# Altium footprint library Optocoupler.PcbLib: 1 footprints
Each footprint in its own frame and in the unit in brackets; x right, y up, seen from the top. Pads: shape width x height; smd on the part's side, far side on the other; paste and mask are expansions set on the pad; w line width, h text height; cw(c..) or ccw(c..) is an arc to the next point about the centre after c.
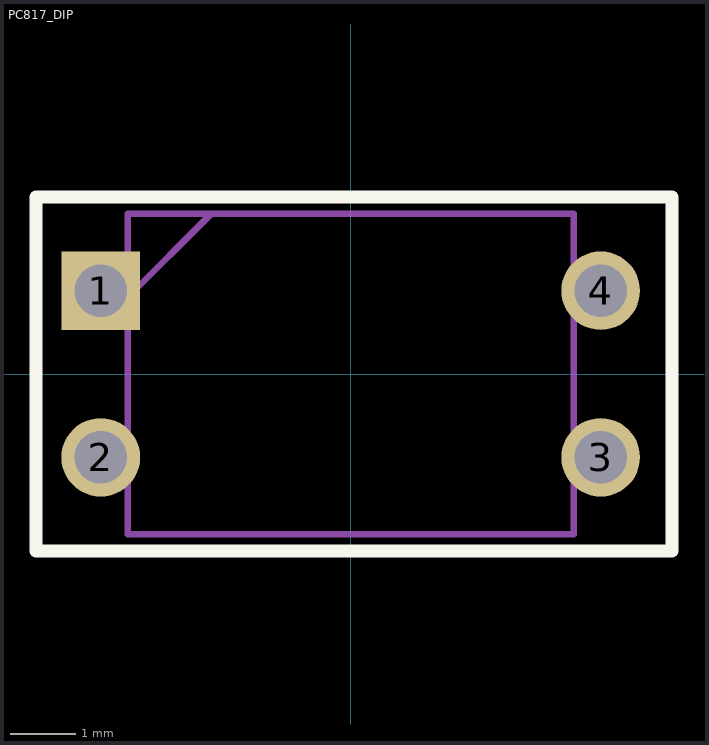
[diagram p0: the footprint, top view; thin cyan lines are the x and y axes]

## PC817_DIP [mm] "DIP-4 Transistor Output Optocoupler"
pads (4):
  rect 1.2x1.2 hole 0.8: 1(-3.81,1.27)
  round 1.2 hole 0.8: 2(-3.81,-1.27) 3(3.81,-1.27) 4(3.81,1.27)
Top Overlay:
  lines w0.2: -4.8,-2.7 -4.8,2.7 -4.6,2.7 4.6,2.7 4.9,2.7 4.9,-2.7 -4.8,-2.7
Mechanical 13:
  lines w0.1: -3.4,1.17 -2.13,2.44 ; -3.4,-2.44 -3.4,2.44 3.4,2.44 3.4,-2.44 -3.4,-2.44
Mechanical 15:
  lines w0.05: -4.8,-2.7 -4.8,2.7 4.9,2.7 4.9,-2.7 -4.8,-2.7
3D body "PC817X2NSZ0F.stp": height 4, standoff -3.5, extent -3.96,-2.29 3.96,2.29